# EAGLE library part FUTURLEC_7SEG_4DIGIT_CC (library Evan)
4-Digit 7-Segment LED Display from Futurlec: 7FR5641AS, 7FG5641AG, 7FY5641AY, 7FB5641AB, 7FW5641AW.
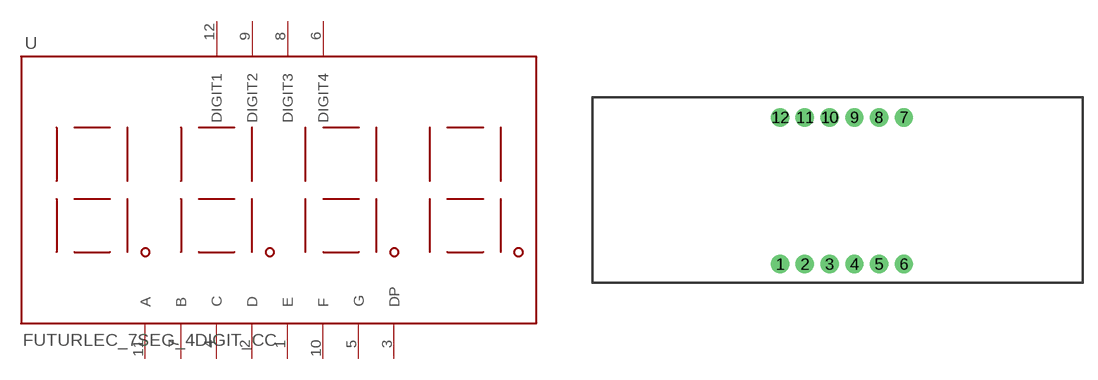
[diagram p1: symbol with the pads of FUTURLEC_7SEG_4DIGIT_CC; footprint FUTURLEC_7SEG_4DIGIT_CC]

Designator prefix -

## FUTURLEC_7SEG_4DIGIT_CCCC  [FUTURLEC_7SEG_4DIGIT_CC]
1  E
2  D
3  DP
4  C
5  G
6  DIGIT4
7  B
8  DIGIT3
9  DIGIT2
10  F
11  A
12  DIGIT1

## Footprint FUTURLEC_7SEG_4DIGIT_CC (pad centres in mm)
drill 1.016 pad 1.88 round: 1 -6.35,-7.58; 2 -3.81,-7.58; 3 -1.27,-7.58; 4 1.27,-7.58; 5 3.81,-7.58; 6 6.35,-7.58; 7 6.35,7.46; 8 3.81,7.46; 9 1.27,7.46; 10 -1.27,7.46; 11 -3.81,7.46; 12 -6.35,7.46